# Altium footprint library DFN-10_EP_3x3mm.PcbLib: 1 footprints
Each footprint in its own frame and in the unit in brackets; x right, y up, seen from the top. Pads: shape width x height; smd on the part's side, far side on the other; paste and mask are expansions set on the pad; w line width, h text height; cw(c..) or ccw(c..) is an arc to the next point about the centre after c.
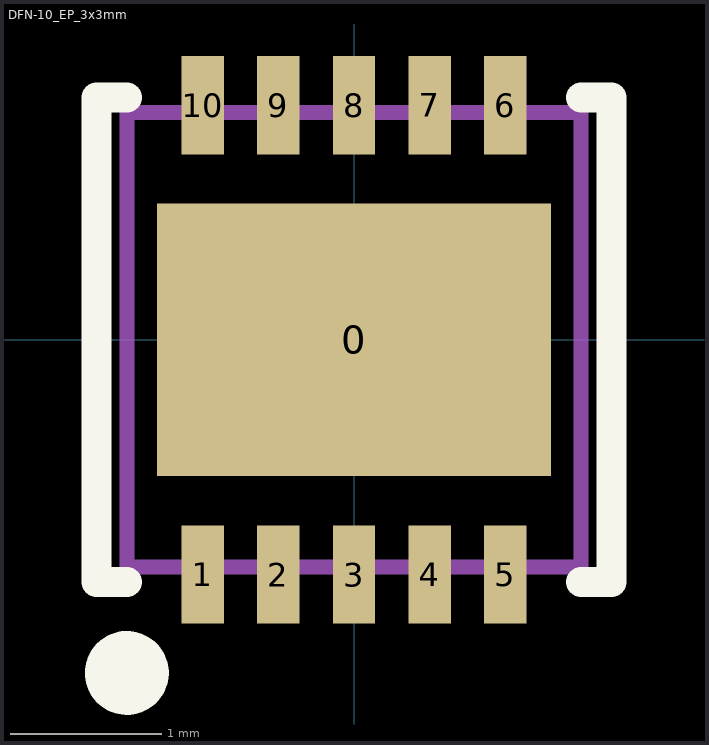
[diagram p0: the footprint, top view; thin cyan lines are the x and y axes]

## DFN-10_EP_3x3mm [mm]
pads (11):
  rect 2.6x1.8 smd mask+0.051: 0(0,0)
  rect 0.28x0.65 smd mask+0.051: 1(-1,-1.55) 2(-0.5,-1.55) 3(0,-1.55) 4(0.5,-1.55) 5(1,-1.55) 6(1,1.55) 7(0.5,1.55) 8(0,1.55) 9(-0.5,1.55) 10(-1,1.55)
Top Overlay:
  circle w0.3: c-1.5,-2.2 r0.127
  lines w0.2: -1.5,-1.6 -1.7,-1.6 -1.7,1.6 -1.5,1.6 ; 1.5,-1.6 1.7,-1.6 1.7,1.6 1.5,1.6
Mechanical 13:
  lines w0.1: -1.5,-1.5 -1.5,1.5 1.5,1.5 1.5,-1.5 -1.5,-1.5